# EAGLE library part USB (library NBitWonder)
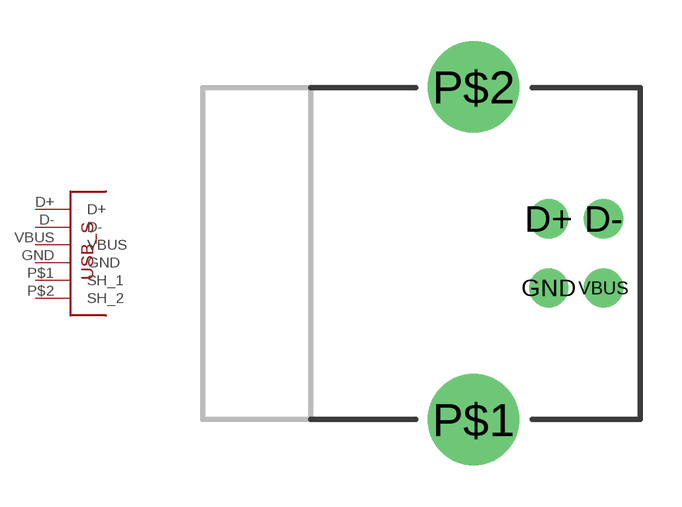
[diagram p3: symbol with the pads of USB_B_PTH; footprint USB_B_PTH]

Designator prefix -

## USB  [USB_B_PTH]
D+  D+
D-  D-
GND  GND
P$1  SH_1
P$2  SH_2
VBUS  VBUS

## Footprint USB_B_PTH (pad centres in mm)
drill 0.914 round: D+ 0,1.25; D- 1.981,1.25; GND 0,-1.25; VBUS 1.981,-1.25
drill 2.286 round: P$1 -2.718,-6.02; P$2 -2.718,6.02